# Altium footprint library SN75240.PcbLib: 1 footprints
Each footprint in its own frame and in the unit in brackets; x right, y up, seen from the top. Pads: shape width x height; smd on the part's side, far side on the other; paste and mask are expansions set on the pad; w line width, h text height; cw(c..) or ccw(c..) is an arc to the next point about the centre after c.
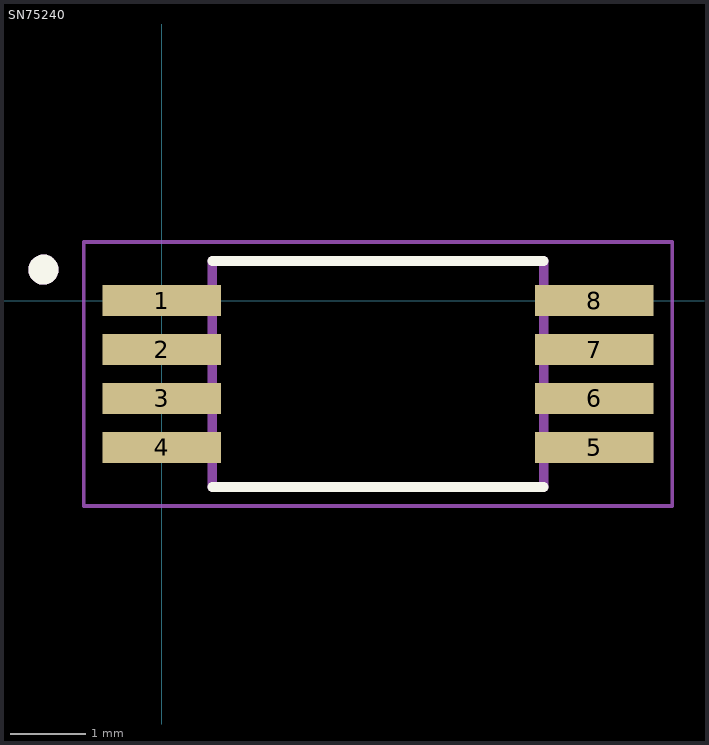
[diagram p0: the footprint, top view; thin cyan lines are the x and y axes]

## SN75240 [mm]
pads (8):
  rect 1.57x0.41 smd: 1(0,0) 2(0,-0.65) 3(0,-1.3) 4(0,-1.95) 5(5.74,-1.95) 6(5.74,-1.3) 7(5.74,-0.65) 8(5.74,0)
Top Overlay:
  circle w0.2: c-1.57,0.41 r0.1
  lines w0.127: 0.67,-2.475 5.07,-2.475 ; 0.67,0.525 5.07,0.525
Mechanical 4:
  circle w0.2: c-1.57,0.41 r0.1
  circle w0.2: c-1.57,0.41 r0.1
  lines w0.127: 0.67,-2.475 0.67,0.525 ; 0.67,-2.475 5.07,-2.475 ; 0.67,-2.475 0.67,0.525 ; 0.67,-2.475 5.07,-2.475 ; 0.67,0.525 5.07,0.525 ; 0.67,0.525 5.07,0.525 ; 5.07,-2.475 5.07,0.525 ; 5.07,-2.475 5.07,0.525
Mechanical 16:
  lines w0.05: -1.035,-2.725 -1.035,0.775 6.775,0.775 6.775,-2.725 -1.035,-2.725